# Altium integrated library PQP1-D12-D15-M.IntLib: 1 symbol
Pins are listed as number, name and electrical type; pins without a type are passive.

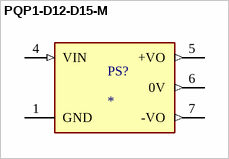
[diagram p0: symbol PQP1-D12-D15-M]

## PQP1-D12-D15-M
designator PS?
DC-DC CONVERTER; MP: PQP1-D12-D15-M; Package: None; Price: None; Value: *; Availability: Unavailable
footprint CONV_PQP1-D12-D15-M
pins: 1 GND (power), 4 VIN (in), 5 +VO (out), 6 0V (out), 7 -VO (out)